# EAGLE library part DRV8833 (library Dog_Treat_Launcher)
DRV8833 Motor Controller/Driver Power Management Evaluation Board Check availability <https://pricing.snapeda.com/parts/3297/Adafruit%20Industries/view-part?ref=eda>
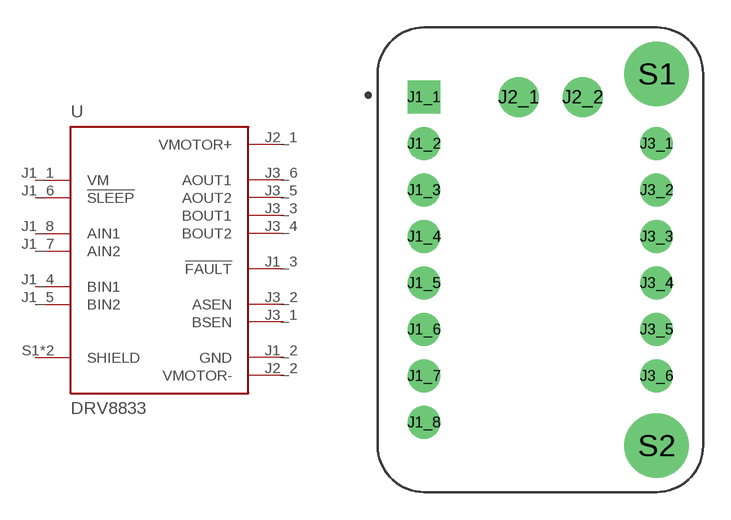
[diagram p2: symbol with the pads of MODULE_3297; footprint MODULE_3297]

Designator prefix U

## DRV8833 (AVAILABILITY: Not in stock; CHECK_PRICES: https://www.snapeda.com/parts/3297/Adafruit+Industries/view-part/?ref=eda; DESCRIPTION: DRV8833 Motor Controller/Driver Power Management Evaluation Board; MF: Adafruit Industries; MP: 3297; PACKAGE: None; PRICE: None; SNAPEDA_LINK: https://www.snapeda.com/parts/3297/Adafruit+Industries/view-part/?ref=snap)  [MODULE_3297]
J1_1  VM  in
J1_2  GND  pwr
J1_3  !FAULT  out
J1_4  BIN1  in
J1_5  BIN2  in
J1_6  !SLEEP  in
J1_7  AIN2  in
J1_8  AIN1  in
J2_1  VMOTOR+  pwr
J2_2  VMOTOR-  pwr
J3_1  BSEN  pas
J3_2  ASEN  pas
J3_3  BOUT1  out
J3_4  BOUT2  out
J3_5  AOUT2  out
J3_6  AOUT1  out
S1  SHIELD  pas
S2  SHIELD  pas

## Footprint MODULE_3297 (pad centres in mm)
drill 1 pad 1.778 square: J1_1 -6.35,8.89
drill 1 pad 1.778: J1_2 -6.35,6.35; J1_3 -6.35,3.81; J1_4 -6.35,1.27; J1_5 -6.35,-1.27; J1_6 -6.35,-3.81; J1_7 -6.35,-6.35; J1_8 -6.35,-8.89; J3_1 6.35,6.35; J3_2 6.35,3.81; J3_3 6.35,1.27; J3_4 6.35,-1.27; J3_5 6.35,-3.81; J3_6 6.35,-6.35
drill 1 pad 2.184: J2_1 -1.192,8.89; J2_2 2.308,8.89
drill 2.5 pad 3.2: S1 6.35,10.16; S2 6.35,-10.16